# Altium footprint library CONN_TBLOCK_3P5_A.PcbLib: 36 footprints (part 1 of 3)
Each footprint in its own frame and in the unit in brackets; x right, y up, seen from the top. Pads: shape width x height; smd on the part's side, far side on the other; paste and mask are expansions set on the pad; w line width, h text height; cw(c..) or ccw(c..) is an arc to the next point about the centre after c.
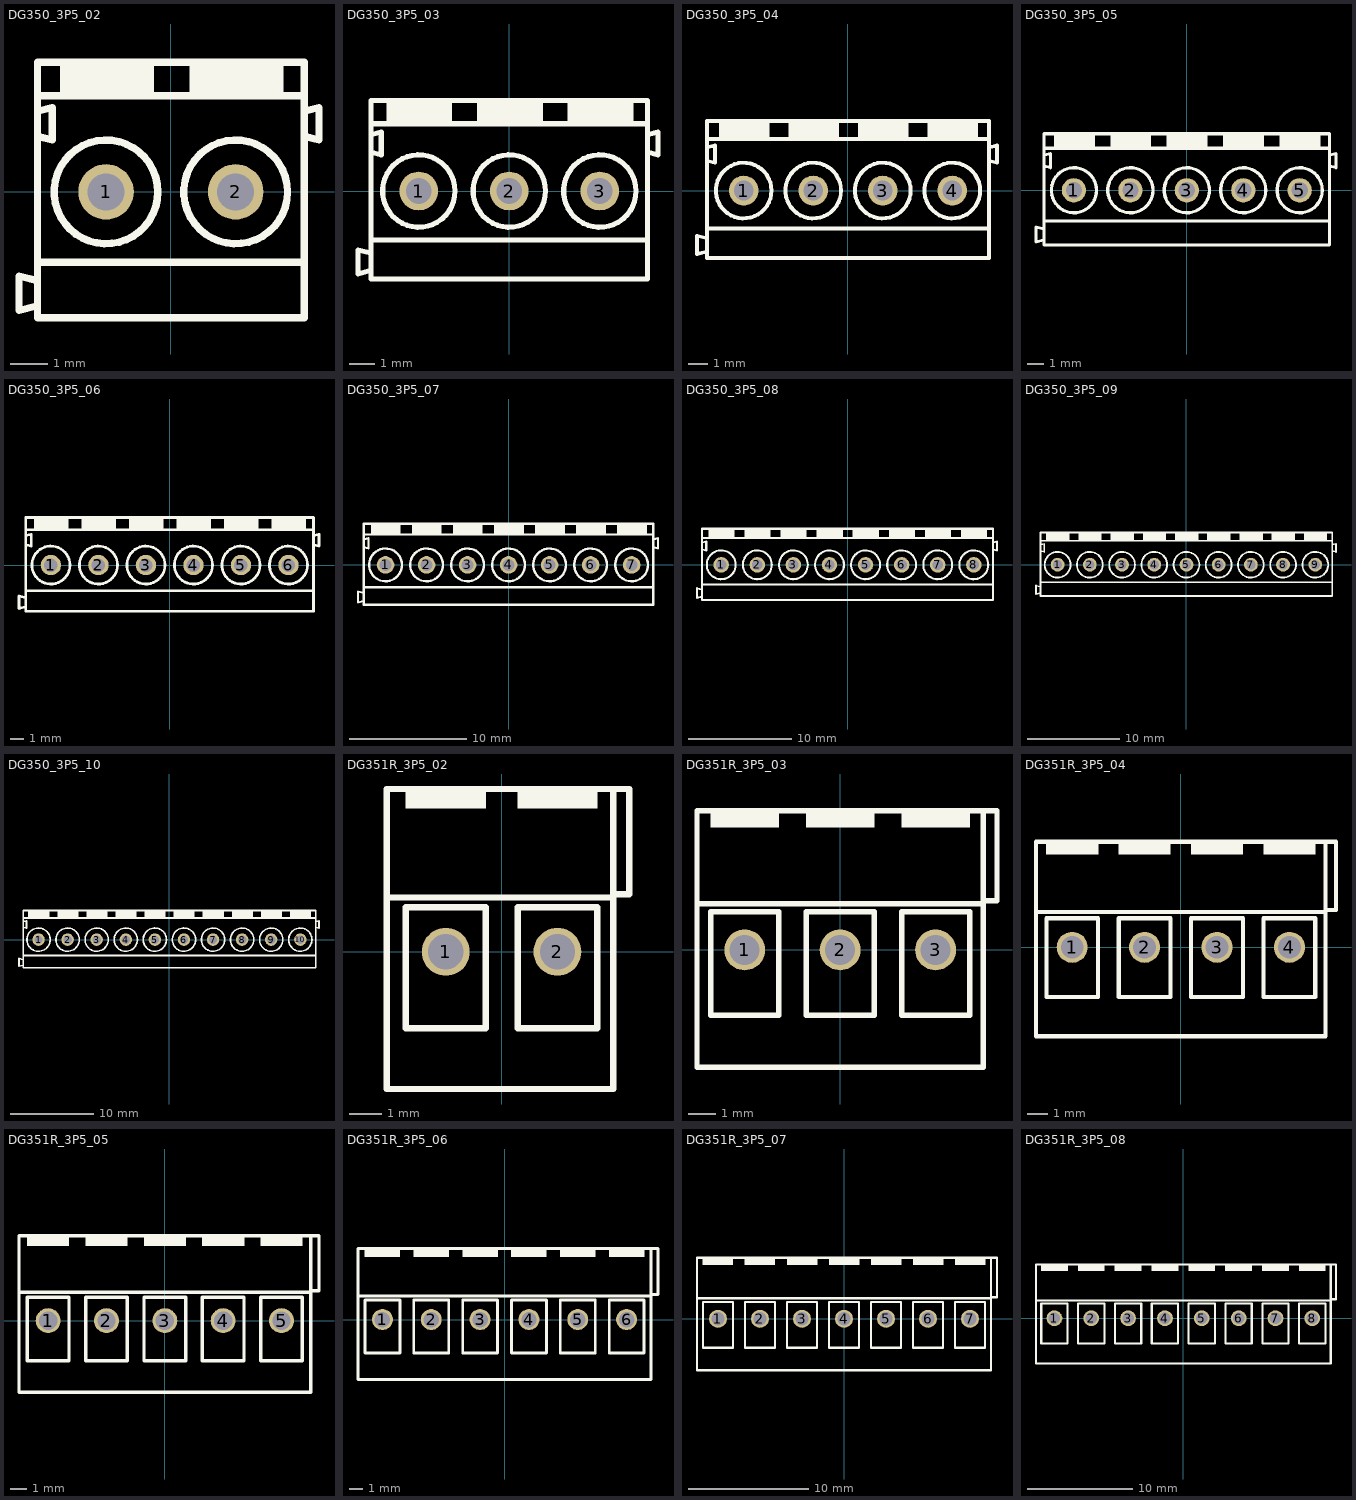
[diagram p0: the footprints below, top view; thin cyan lines are the x and y axes]

## DG350_3P5_02 [mm] "Terminal Block Screw, Pitch 3.5mm, H 8.6mm"
height 8.6
pads (2):
  round 1.5 / inner round 1.5 / far side rect 2x2.5 hole 1: 1(-1.75,0)
  round 1.5 / inner round 1.5 / far side oval 2x2.5 hole 1: 2(1.75,0)
Top Overlay:
  circle w0.2: c-1.75,0 r1.4
  circle w0.2: c1.75,0 r1.4
  rectangle: -2.996,2.667 -0.456,3.556
  rectangle: 0.504,2.667 3.044,3.556
  lines w0.2: -3.629,-3.082 -4.1,-3.2 -4.1,-2.275 -3.6,-2.4 ; -3.6,-1.9 3.6,-1.9 ; -3.6,1.5 -3.2,1.4 -3.2,2.275 -3.571,2.182 ; -3.6,2.6 3.6,2.6 ; 3.6,1.5 4,1.4 4,2.275 3.629,2.182 ; -3.6,-3.4 -3.6,3.5 3.6,3.5 3.6,-3.4 -3.6,-3.4
3D body "DG350-3,5-02P.step": height 8.4, standoff -3.4, extent -4.028,-3.375 3.972,3.425

## DG350_3P5_03 [mm] "Terminal Block Screw, Pitch 3.5mm, H 8.6mm"
height 8.6
pads (3):
  round 1.5 / inner round 1.5 / far side rect 2x2.5 hole 1: 1(-3.5,0)
  round 1.5 / inner round 1.5 / far side oval 2x2.5 hole 1: 2(0,0) 3(3.5,0)
Top Overlay:
  circle w0.2: c0,0 r1.4
  circle w0.2: c3.5,0 r1.4
  circle w0.2: c-3.5,0 r1.4
  rectangle: -1.246,2.667 1.294,3.556
  rectangle: 2.254,2.667 4.794,3.556
  rectangle: -4.746,2.667 -2.206,3.556
  lines w0.2: -5.379,-3.082 -5.85,-3.2 -5.85,-2.275 -5.35,-2.4 ; -5.35,-1.9 5.35,-1.9 ; -5.35,1.5 -4.95,1.4 -4.95,2.275 -5.321,2.182 ; -5.35,2.6 5.35,2.6 ; 5.35,1.5 5.75,1.4 5.75,2.275 5.379,2.182 ; -5.35,-3.4 -5.35,3.5 5.35,3.5 5.35,-3.4 -5.35,-3.4
3D body "DG350-3,5-03P.step": height 8.4, standoff -3.5, extent -5.75,-3.375 5.75,3.425

## DG350_3P5_04 [mm] "Terminal Block Screw, Pitch 3.5mm, H 8.6mm"
height 8.6
pads (4):
  round 1.5 / inner round 1.5 / far side rect 2x2.5 hole 1: 1(-5.25,0)
  round 1.5 / inner round 1.5 / far side oval 2x2.5 hole 1: 2(-1.75,0) 3(1.75,0) 4(5.25,0)
Top Overlay:
  circle w0.2: c-1.75,0 r1.4
  circle w0.2: c-5.25,0 r1.4
  circle w0.2: c5.25,0 r1.4
  circle w0.2: c1.75,0 r1.4
  rectangle: -2.996,2.667 -0.456,3.556
  rectangle: -6.496,2.667 -3.956,3.556
  rectangle: 4.004,2.667 6.544,3.556
  rectangle: 0.504,2.667 3.044,3.556
  lines w0.2: -7.129,-3.082 -7.6,-3.2 -7.6,-2.275 -7.1,-2.4 ; -7.1,-1.9 7.1,-1.9 ; -7.1,1.5 -6.7,1.4 -6.7,2.275 -7.071,2.182 ; -7.1,2.6 7.1,2.6 ; 7.1,1.5 7.5,1.4 7.5,2.275 7.129,2.182 ; -7.1,-3.4 7.1,-3.4 7.1,3.5 -7.1,3.5 -7.1,-3.4
3D body "DG350-3,5-02P.step": height 8.4, standoff -3.4, extent -7.528,-3.375 0.472,3.425
3D body "DG350-3,5-02P.step": height 8.4, standoff -3.4, extent -0.528,-3.375 7.472,3.425

## DG350_3P5_05 [mm] "Terminal Block Screw, Pitch 3.5mm, H 8.6mm"
height 8.6
pads (5):
  round 1.5 / inner round 1.5 / far side rect 2x2.5 hole 1: 1(-7,0)
  round 1.5 / inner round 1.5 / far side oval 2x2.5 hole 1: 2(-3.5,0) 3(0,0) 4(3.5,0) 5(7,0)
Top Overlay:
  circle w0.2: c3.5,0 r1.4
  circle w0.2: c7,0 r1.4
  circle w0.2: c-3.5,0 r1.4
  circle w0.2: c0,0 r1.4
  circle w0.2: c-7,0 r1.4
  rectangle: 2.254,2.667 4.794,3.556
  rectangle: 5.754,2.667 8.294,3.556
  rectangle: -4.746,2.667 -2.206,3.556
  rectangle: -1.246,2.667 1.294,3.556
  rectangle: -8.246,2.667 -5.706,3.556
  lines w0.2: -8.879,-3.082 -9.35,-3.2 -9.35,-2.275 -8.85,-2.4 ; -8.85,-1.9 8.85,-1.9 ; -8.85,1.5 -8.45,1.4 -8.45,2.275 -8.821,2.182 ; -8.85,2.6 8.85,2.6 ; 8.85,1.5 9.25,1.4 9.25,2.275 8.879,2.182 ; -8.85,-3.4 -8.85,3.5 8.85,3.5 8.85,-3.4 -8.85,-3.4
3D body "DG350-3,5-02P.step": height 8.4, standoff -3.4, extent 1.222,-3.375 9.222,3.425
3D body "DG350-3,5-03P.step": height 8.4, standoff -3.5, extent -9.25,-3.375 2.25,3.425

## DG350_3P5_06 [mm] "Terminal Block Screw, Pitch 3.5mm, H 8.6mm"
height 8.6
pads (6):
  round 1.5 / inner round 1.5 / far side rect 2x2.5 hole 1: 1(-8.75,0)
  round 1.5 / inner round 1.5 / far side oval 2x2.5 hole 1: 2(-5.25,0) 3(-1.75,0) 4(1.75,0) 5(5.25,0) 6(8.75,0)
Top Overlay:
  circle w0.2: c-5.25,0 r1.4
  circle w0.2: c-8.75,0 r1.4
  circle w0.2: c1.75,0 r1.4
  circle w0.2: c-1.75,0 r1.4
  circle w0.2: c8.75,0 r1.4
  circle w0.2: c5.25,0 r1.4
  rectangle: -6.496,2.667 -3.956,3.556
  rectangle: -9.996,2.667 -7.456,3.556
  rectangle: 0.504,2.667 3.044,3.556
  rectangle: -2.996,2.667 -0.456,3.556
  rectangle: 7.504,2.667 10.044,3.556
  rectangle: 4.004,2.667 6.544,3.556
  lines w0.2: -10.629,-3.082 -11.1,-3.2 -11.1,-2.275 -10.6,-2.4 ; -10.6,-1.9 10.6,-1.9 ; -10.6,1.5 -10.2,1.4 -10.2,2.275 -10.571,2.182 ; -10.6,2.6 10.6,2.6 ; 10.6,1.5 11,1.4 11,2.275 10.629,2.182 ; -10.6,-3.4 10.6,-3.4 10.6,3.5 -10.6,3.5 -10.6,-3.4
3D body "DG350-3,5-03P.step": height 8.4, standoff -3.5, extent -0.5,-3.375 11,3.425
3D body "DG350-3,5-03P.step": height 8.4, standoff -3.5, extent -11,-3.375 0.5,3.425

## DG350_3P5_07 [mm] "Terminal Block Screw, Pitch 3.5mm, H 8.6mm"
height 8.6
pads (7):
  round 1.5 / inner round 1.5 / far side rect 2x2.5 hole 1: 1(-10.5,0)
  round 1.5 / inner round 1.5 / far side oval 2x2.5 hole 1: 2(-7,0) 3(-3.5,0) 4(0,0) 5(3.5,0) 6(7,0) 7(10.5,0)
Top Overlay:
  circle w0.2: c7,0 r1.4
  circle w0.2: c10.5,0 r1.4
  circle w0.2: c0,0 r1.4
  circle w0.2: c3.5,0 r1.4
  circle w0.2: c-7,0 r1.4
  circle w0.2: c-3.5,0 r1.4
  circle w0.2: c-10.5,0 r1.4
  rectangle: 5.754,2.667 8.294,3.556
  rectangle: 9.254,2.667 11.794,3.556
  rectangle: -1.246,2.667 1.294,3.556
  rectangle: 2.254,2.667 4.794,3.556
  rectangle: -8.246,2.667 -5.706,3.556
  rectangle: -4.746,2.667 -2.206,3.556
  rectangle: -11.746,2.667 -9.206,3.556
  lines w0.2: -12.379,-3.082 -12.85,-3.2 -12.85,-2.275 -12.35,-2.4 ; -12.35,-1.9 12.35,-1.9 ; -12.35,1.5 -11.95,1.4 -11.95,2.275 -12.321,2.182 ; -12.35,2.6 12.35,2.6 ; 12.35,1.5 12.75,1.4 12.75,2.275 12.379,2.182 ; -12.35,-3.4 -12.35,3.5 12.35,3.5 12.35,-3.4 -12.35,-3.4
3D body "DG350-3,5-03P.step": height 8.4, standoff -3.5, extent 1.25,-3.375 12.75,3.425
3D body "DG350-3,5-02P.step": height 8.4, standoff -3.4, extent -5.778,-3.375 2.222,3.425
3D body "DG350-3,5-02P.step": height 8.4, standoff -3.4, extent -12.778,-3.375 -4.778,3.425

## DG350_3P5_08 [mm] "Terminal Block Screw, Pitch 3.5mm, H 8.6mm"
height 8.6
pads (8):
  round 1.5 / inner round 1.5 / far side rect 2x2.5 hole 1: 1(-12.25,0)
  round 1.5 / inner round 1.5 / far side oval 2x2.5 hole 1: 2(-8.75,0) 3(-5.25,0) 4(-1.75,0) 5(1.75,0) 6(5.25,0) 7(8.75,0) 8(12.25,0)
Top Overlay:
  circle w0.2: c8.75,0 r1.4
  circle w0.2: c12.25,0 r1.4
  circle w0.2: c1.75,0 r1.4
  circle w0.2: c5.25,0 r1.4
  circle w0.2: c-5.25,0 r1.4
  circle w0.2: c-1.75,0 r1.4
  circle w0.2: c-12.25,0 r1.4
  circle w0.2: c-8.75,0 r1.4
  rectangle: 7.504,2.667 10.044,3.556
  rectangle: 11.004,2.667 13.544,3.556
  rectangle: 0.504,2.667 3.044,3.556
  rectangle: 4.004,2.667 6.544,3.556
  rectangle: -6.496,2.667 -3.956,3.556
  rectangle: -2.996,2.667 -0.456,3.556
  rectangle: -13.496,2.667 -10.956,3.556
  rectangle: -9.996,2.667 -7.456,3.556
  lines w0.2: -14.129,-3.082 -14.6,-3.2 -14.6,-2.275 -14.1,-2.4 ; -14.1,-1.9 14.1,-1.9 ; -14.1,1.5 -13.7,1.4 -13.7,2.275 -14.071,2.182 ; -14.1,2.6 14.1,2.6 ; 14.1,1.5 14.5,1.4 14.5,2.275 14.129,2.182 ; -14.1,-3.4 -14.1,3.5 14.1,3.5 14.1,-3.4 -14.1,-3.4
3D body "DG350-3,5-02P.step": height 8.4, standoff -3.4, extent -14.528,-3.375 -6.528,3.425
3D body "DG350-3,5-03P.step": height 8.4, standoff -3.5, extent 3,-3.375 14.5,3.425
3D body "DG350-3,5-03P.step": height 8.4, standoff -3.5, extent -7.5,-3.375 4,3.425

## DG350_3P5_09 [mm] "Terminal Block Screw, Pitch 3.5mm, H 8.6mm"
height 8.6
pads (9):
  round 1.5 / inner round 1.5 / far side rect 2x2.5 hole 1: 1(-14,0)
  round 1.5 / inner round 1.5 / far side oval 2x2.5 hole 1: 2(-10.5,0) 3(-7,0) 4(-3.5,0) 5(0,0) 6(3.5,0) 7(7,0) 8(10.5,0) 9(14,0)
Top Overlay:
  circle w0.2: c-14,0 r1.4
  circle w0.2: c-7,0 r1.4
  circle w0.2: c-10.5,0 r1.4
  circle w0.2: c0,0 r1.4
  circle w0.2: c-3.5,0 r1.4
  circle w0.2: c7,0 r1.4
  circle w0.2: c3.5,0 r1.4
  circle w0.2: c14,0 r1.4
  circle w0.2: c10.5,0 r1.4
  rectangle: -15.246,2.667 -12.706,3.556
  rectangle: -8.246,2.667 -5.706,3.556
  rectangle: -11.746,2.667 -9.206,3.556
  rectangle: -1.246,2.667 1.294,3.556
  rectangle: -4.746,2.667 -2.206,3.556
  rectangle: 5.754,2.667 8.294,3.556
  rectangle: 2.254,2.667 4.794,3.556
  rectangle: 12.754,2.667 15.294,3.556
  rectangle: 9.254,2.667 11.794,3.556
  lines w0.2: -15.879,-3.082 -16.35,-3.2 -16.35,-2.275 -15.85,-2.4 ; -15.85,-1.9 15.85,-1.9 ; -15.85,1.5 -15.45,1.4 -15.45,2.275 -15.821,2.182 ; -15.85,2.6 15.85,2.6 ; 15.85,1.5 16.25,1.4 16.25,2.275 15.879,2.182 ; -15.85,-3.4 15.85,-3.4 15.85,3.5 -15.85,3.5 -15.85,-3.4
3D body "DG350-3,5-03P.step": height 8.4, standoff -3.5, extent -16.25,-3.375 -4.75,3.425
3D body "DG350-3,5-03P.step": height 8.4, standoff -3.5, extent -5.75,-3.375 5.75,3.425
3D body "DG350-3,5-03P.step": height 8.4, standoff -3.5, extent 4.75,-3.375 16.25,3.425

## DG350_3P5_10 [mm] "Terminal Block Screw, Pitch 3.5mm, H 8.6mm"
height 8.6
pads (10):
  round 1.5 / inner round 1.5 / far side rect 2x2.5 hole 1: 1(-15.75,0)
  round 1.5 / inner round 1.5 / far side oval 2x2.5 hole 1: 2(-12.25,0) 3(-8.75,0) 4(-5.25,0) 5(-1.75,0) 6(1.75,0) 7(5.25,0) 8(8.75,0) 9(12.25,0) 10(15.75,0)
Top Overlay:
  circle w0.2: c-12.25,0 r1.4
  circle w0.2: c-15.75,0 r1.4
  circle w0.2: c-5.25,0 r1.4
  circle w0.2: c-8.75,0 r1.4
  circle w0.2: c1.75,0 r1.4
  circle w0.2: c-1.75,0 r1.4
  circle w0.2: c8.75,0 r1.4
  circle w0.2: c5.25,0 r1.4
  circle w0.2: c15.75,0 r1.4
  circle w0.2: c12.25,0 r1.4
  rectangle: -13.496,2.667 -10.956,3.556
  rectangle: -16.996,2.667 -14.456,3.556
  rectangle: -6.496,2.667 -3.956,3.556
  rectangle: -9.996,2.667 -7.456,3.556
  rectangle: 0.504,2.667 3.044,3.556
  rectangle: -2.996,2.667 -0.456,3.556
  rectangle: 7.504,2.667 10.044,3.556
  rectangle: 4.004,2.667 6.544,3.556
  rectangle: 14.504,2.667 17.044,3.556
  rectangle: 11.004,2.667 13.544,3.556
  lines w0.2: -17.629,-3.082 -18.1,-3.2 -18.1,-2.275 -17.6,-2.4 ; -17.6,-1.9 17.6,-1.9 ; -17.6,1.5 -17.2,1.4 -17.2,2.275 -17.571,2.182 ; -17.6,2.6 17.6,2.6 ; 17.6,1.5 18,1.4 18,2.275 17.629,2.182 ; -17.6,-3.4 17.6,-3.4 17.6,3.5 -17.6,3.5 -17.6,-3.4
3D body "DG350-3,5-02P.step": height 8.4, standoff -3.4, extent 9.972,-3.375 17.972,3.425
3D body "DG350-3,5-03P.step": height 8.4, standoff -3.5, extent -0.5,-3.375 11,3.425
3D body "DG350-3,5-02P.step": height 8.4, standoff -3.4, extent -7.528,-3.375 0.472,3.425
3D body "DG350-3,5-03P.step": height 8.4, standoff -3.5, extent -18,-3.375 -6.5,3.425

## DG351R_3P5_02 [mm] "Terminal Block Screw, Pitch 3.5mm, H 7.6mm"
height 7.6
pads (2):
  round 1.5 / inner round 1.5 / far side rect 2x2.5 hole 1.1: 1(-1.75,0)
  round 1.5 / inner round 1.5 / far side oval 2x2.5 hole 1.1: 2(1.75,0)
Top Overlay:
  region: 0.5,5.1 0.5,4.5 3,4.5 3,5.1
  region: -3,5.1 -3,4.5 -0.5,4.5 -0.5,5.1
  lines w0.2: -3.6,1.7 3.5,1.7 ; 3.5,1.8 4,1.8 4,5.1 3.5,5.1 ; 3.5,5.1 3.5,-4.3 -3.6,-4.3 -3.6,5.1 3.5,5.1 ; -3,-2.4 -0.5,-2.4 -0.5,1.4 -3,1.4 -3,-2.4 ; 0.5,-2.4 3,-2.4 3,1.4 0.5,1.4 0.5,-2.4
3D body "DG351R-3.5-02P.stp": height 7.65, standoff -4.45, extent -3.565,-4.2 3.975,5

## DG351R_3P5_03 [mm] "Terminal Block Screw, Pitch 3.5mm, H 7.6mm"
height 7.6
pads (3):
  round 1.5 / inner round 1.5 / far side rect 2x2.5 hole 1.1: 1(-3.5,0)
  round 1.5 / inner round 1.5 / far side oval 2x2.5 hole 1.1: 2(0,0) 3(3.5,0)
Top Overlay:
  region: -4.75,5.1 -4.75,4.5 -2.25,4.5 -2.25,5.1
  region: -1.25,5.1 -1.25,4.5 1.25,4.5 1.25,5.1
  region: 2.25,5.1 2.25,4.5 4.75,4.5 4.75,5.1
  lines w0.2: -5.25,1.7 5.25,1.7 ; 5.25,1.8 5.75,1.8 5.75,5.1 5.25,5.1 ; 5.25,5.1 -5.25,5.1 -5.25,-4.3 5.25,-4.3 5.25,5.1 ; -4.75,-2.4 -4.75,1.4 -2.25,1.4 -2.25,-2.4 -4.75,-2.4 ; -1.25,-2.4 -1.25,1.4 1.25,1.4 1.25,-2.4 -1.25,-2.4 ; 2.25,-2.4 2.25,1.4 4.75,1.4 4.75,-2.4 2.25,-2.4
3D body "DG351R-3.5-03P.stp": height 7.65, standoff -4.45, extent -5.32,-4.2 5.72,5

## DG351R_3P5_04 [mm] "Terminal Block Screw, Pitch 3.5mm, H 7.6mm"
height 7.6
pads (4):
  round 1.5 / inner round 1.5 / far side rect 2x2.5 hole 1.1: 1(-5.25,0)
  round 1.5 / inner round 1.5 / far side oval 2x2.5 hole 1.1: 2(-1.75,0) 3(1.75,0) 4(5.25,0)
Top Overlay:
  region: 4,5.1 4,4.5 6.5,4.5 6.5,5.1
  region: 0.5,5.1 0.5,4.5 3,4.5 3,5.1
  region: -3,5.1 -3,4.5 -0.5,4.5 -0.5,5.1
  region: -6.5,5.1 -6.5,4.5 -4,4.5 -4,5.1
  lines w0.2: -7,1.7 7,1.7 ; 7,1.8 7.5,1.8 7.5,5.1 7,5.1 ; 7,5.1 7,-4.3 -7,-4.3 -7,5.1 7,5.1 ; -6.5,-2.4 -4,-2.4 -4,1.4 -6.5,1.4 -6.5,-2.4 ; -3,-2.4 -0.5,-2.4 -0.5,1.4 -3,1.4 -3,-2.4 ; 0.5,-2.4 3,-2.4 3,1.4 0.5,1.4 0.5,-2.4 ; 4,-2.4 6.5,-2.4 6.5,1.4 4,1.4 4,-2.4
3D body "DG351R-3.5-04P.stp": height 7.65, standoff -4.45, extent -7.07,-4.2 7.47,5

## DG351R_3P5_05 [mm] "Terminal Block Screw, Pitch 3.5mm, H 7.6mm"
height 7.6
pads (5):
  round 1.5 / inner round 1.5 / far side rect 2x2.5 hole 1.1: 1(-7,0)
  round 1.5 / inner round 1.5 / far side oval 2x2.5 hole 1.1: 2(-3.5,0) 3(0,0) 4(3.5,0) 5(7,0)
Top Overlay:
  region: 5.75,5.1 5.75,4.5 8.25,4.5 8.25,5.1
  region: 2.25,5.1 2.25,4.5 4.75,4.5 4.75,5.1
  region: -1.25,5.1 -1.25,4.5 1.25,4.5 1.25,5.1
  region: -4.75,5.1 -4.75,4.5 -2.25,4.5 -2.25,5.1
  region: -8.25,5.1 -8.25,4.5 -5.75,4.5 -5.75,5.1
  lines w0.2: -8.75,1.7 8.75,1.7 ; 8.75,1.8 9.25,1.8 9.25,5.1 8.75,5.1 ; 8.75,5.1 8.75,-4.3 -8.75,-4.3 -8.75,5.1 8.75,5.1 ; -8.25,-2.4 -5.75,-2.4 -5.75,1.4 -8.25,1.4 -8.25,-2.4 ; -4.75,-2.4 -2.25,-2.4 -2.25,1.4 -4.75,1.4 -4.75,-2.4 ; -1.25,-2.4 1.25,-2.4 1.25,1.4 -1.25,1.4 -1.25,-2.4 ; 2.25,-2.4 4.75,-2.4 4.75,1.4 2.25,1.4 2.25,-2.4 ; 5.75,-2.4 8.25,-2.4 8.25,1.4 5.75,1.4 5.75,-2.4
3D body "DG351R-3.5-05P.stp": height 7.65, standoff -4.45, extent -8.77,-4.2 9.27,5

## DG351R_3P5_06 [mm] "Terminal Block Screw, Pitch 3.5mm, H 7.6mm"
height 7.6
pads (6):
  round 1.5 / inner round 1.5 / far side rect 2x2.5 hole 1.1: 1(-8.75,0)
  round 1.5 / inner round 1.5 / far side oval 2x2.5 hole 1.1: 2(-5.25,0) 3(-1.75,0) 4(1.75,0) 5(5.25,0) 6(8.75,0)
Top Overlay:
  region: 7.5,5.1 7.5,4.5 10,4.5 10,5.1
  region: 4,5.1 4,4.5 6.5,4.5 6.5,5.1
  region: 0.5,5.1 0.5,4.5 3,4.5 3,5.1
  region: -3,5.1 -3,4.5 -0.5,4.5 -0.5,5.1
  region: -6.5,5.1 -6.5,4.5 -4,4.5 -4,5.1
  region: -10,5.1 -10,4.5 -7.5,4.5 -7.5,5.1
  lines w0.2: -10.5,1.7 10.5,1.7 ; 10.5,1.8 11,1.8 11,5.1 10.5,5.1 ; 10.5,5.1 10.5,-4.3 -10.5,-4.3 -10.5,5.1 10.5,5.1 ; -10,-2.4 -7.5,-2.4 -7.5,1.4 -10,1.4 -10,-2.4 ; -6.5,-2.4 -4,-2.4 -4,1.4 -6.5,1.4 -6.5,-2.4 ; -3,-2.4 -0.5,-2.4 -0.5,1.4 -3,1.4 -3,-2.4 ; 0.5,-2.4 3,-2.4 3,1.4 0.5,1.4 0.5,-2.4 ; 4,-2.4 6.5,-2.4 6.5,1.4 4,1.4 4,-2.4 ; 7.5,-2.4 10,-2.4 10,1.4 7.5,1.4 7.5,-2.4
3D body "DG351R-3.5-06P.stp": height 7.65, standoff -4.45, extent -10.545,-4.2 10.995,5

## DG351R_3P5_07 [mm] "Terminal Block Screw, Pitch 3.5mm, H 7.6mm"
height 7.6
pads (7):
  round 1.5 / inner round 1.5 / far side rect 2x2.5 hole 1.1: 1(-10.5,0)
  round 1.5 / inner round 1.5 / far side oval 2x2.5 hole 1.1: 2(-7,0) 3(-3.5,0) 4(0,0) 5(3.5,0) 6(7,0) 7(10.5,0)
Top Overlay:
  region: -11.75,5.1 -11.75,4.5 -9.25,4.5 -9.25,5.1
  region: -8.25,5.1 -8.25,4.5 -5.75,4.5 -5.75,5.1
  region: -4.75,5.1 -4.75,4.5 -2.25,4.5 -2.25,5.1
  region: -1.25,5.1 -1.25,4.5 1.25,4.5 1.25,5.1
  region: 2.25,5.1 2.25,4.5 4.75,4.5 4.75,5.1
  region: 5.75,5.1 5.75,4.5 8.25,4.5 8.25,5.1
  region: 9.25,5.1 9.25,4.5 11.75,4.5 11.75,5.1
  lines w0.2: -12.25,1.7 12.25,1.7 ; 12.25,1.8 12.75,1.8 12.75,5.1 12.25,5.1 ; 12.25,5.1 -12.25,5.1 -12.25,-4.3 12.25,-4.3 12.25,5.1 ; -11.75,-2.4 -11.75,1.4 -9.25,1.4 -9.25,-2.4 -11.75,-2.4 ; -8.25,-2.4 -8.25,1.4 -5.75,1.4 -5.75,-2.4 -8.25,-2.4 ; -4.75,-2.4 -4.75,1.4 -2.25,1.4 -2.25,-2.4 -4.75,-2.4 ; -1.25,-2.4 -1.25,1.4 1.25,1.4 1.25,-2.4 -1.25,-2.4 ; 2.25,-2.4 2.25,1.4 4.75,1.4 4.75,-2.4 2.25,-2.4 ; 5.75,-2.4 5.75,1.4 8.25,1.4 8.25,-2.4 5.75,-2.4 ; 9.25,-2.4 9.25,1.4 11.75,1.4 11.75,-2.4 9.25,-2.4
3D body "DG351R-3.5-07P.stp": height 7.65, standoff -4.45, extent -12.295,-4.2 12.745,5

## DG351R_3P5_08 [mm] "Terminal Block Screw, Pitch 3.5mm, H 7.6mm"
height 7.6
pads (8):
  round 1.5 / inner round 1.5 / far side rect 2x2.5 hole 1.1: 1(-12.25,0)
  round 1.5 / inner round 1.5 / far side oval 2x2.5 hole 1.1: 2(-8.75,0) 3(-5.25,0) 4(-1.75,0) 5(1.75,0) 6(5.25,0) 7(8.75,0) 8(12.25,0)
Top Overlay:
  region: -13.5,5.1 -13.5,4.5 -11,4.5 -11,5.1
  region: -10,5.1 -10,4.5 -7.5,4.5 -7.5,5.1
  region: -6.5,5.1 -6.5,4.5 -4,4.5 -4,5.1
  region: -3,5.1 -3,4.5 -0.5,4.5 -0.5,5.1
  region: 0.5,5.1 0.5,4.5 3,4.5 3,5.1
  region: 4,5.1 4,4.5 6.5,4.5 6.5,5.1
  region: 7.5,5.1 7.5,4.5 10,4.5 10,5.1
  region: 11,5.1 11,4.5 13.5,4.5 13.5,5.1
  lines w0.2: -14,1.7 14,1.7 ; 14,1.8 14.5,1.8 14.5,5.1 14,5.1 ; 14,5.1 -14,5.1 -14,-4.3 14,-4.3 14,5.1 ; -13.5,-2.4 -13.5,1.4 -11,1.4 -11,-2.4 -13.5,-2.4 ; -10,-2.4 -10,1.4 -7.5,1.4 -7.5,-2.4 -10,-2.4 ; -6.5,-2.4 -6.5,1.4 -4,1.4 -4,-2.4 -6.5,-2.4 ; -3,-2.4 -3,1.4 -0.5,1.4 -0.5,-2.4 -3,-2.4 ; 0.5,-2.4 0.5,1.4 3,1.4 3,-2.4 0.5,-2.4 ; 4,-2.4 4,1.4 6.5,1.4 6.5,-2.4 4,-2.4 ; 7.5,-2.4 7.5,1.4 10,1.4 10,-2.4 7.5,-2.4 ; 11,-2.4 11,1.4 13.5,1.4 13.5,-2.4 11,-2.4
3D body "DG351R-3.5-08P.stp": height 7.65, standoff -4.45, extent -14.045,-4.2 14.495,5